# EAGLE library part 74*145 (library 74xx-eu)
BCD to decimal DECODER/DRIVER
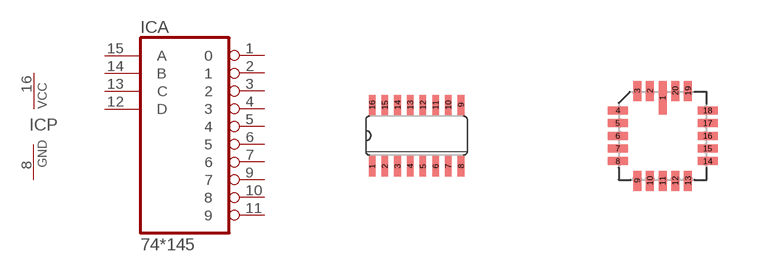
[diagram p97: symbol with the pads of SO16; footprints SO16, LCC20]

Designator prefix IC; gates A=74145 P=PWRN

## 74145D, 74LS145D  [SO16]
1  A:0  out
2  A:1  out
3  A:2  out
4  A:3  out
5  A:4  out
6  A:5  out
7  A:6  out
8  P:GND  pwr
9  A:7  out
10  A:8  out
11  A:9  out
12  A:D  in
13  A:C  in
14  A:B  in
15  A:A  in
16  P:VCC  pwr

## 74145FK, 74LS145FK  [LCC20]
2  A:0  out
3  A:1  out
4  A:2  out
5  A:3  out
7  A:4  out
8  A:5  out
9  A:6  out
10  P:GND  pwr
12  A:7  out
13  A:8  out
14  A:9  out
15  A:D  in
17  A:C  in
18  A:B  in
19  A:A  in
20  P:VCC  pwr

## 74145N, 74LS145N  [DIL16]
Pads as for SO16

## Footprint SO16 (pad centres in mm)
Small Outline package 150 mil
smd 0.165 x 0.508: 1 -1.111,-0.768; 2 -0.794,-0.768; 3 -0.476,-0.768; 4 -0.159,-0.768; 5 0.159,-0.768; 6 0.476,-0.768; 7 0.794,-0.768; 8 1.111,-0.768; 9 1.111,0.768; 10 0.794,0.768; 11 0.476,0.768; 12 0.159,0.768; 13 -0.159,0.768; 14 -0.476,0.768; 15 -0.794,0.768; 16 -1.111,0.768

## Footprint LCC20 (pad centres in mm)
Leadless Chip Carrier Ceramic Package
smd 0.2 x 0.85: 1 0,0.95
smd 0.2 x 0.5: 2 -0.318,1.125; 3 -0.635,1.125; 9 -0.635,-1.125; 10 -0.318,-1.125; 11 0,-1.125; 12 0.318,-1.125; 13 0.635,-1.125; 19 0.635,1.125; 20 0.318,1.125
smd 0.5 x 0.2: 4 -1.125,0.635; 5 -1.125,0.318; 6 -1.125,0; 7 -1.125,-0.318; 8 -1.125,-0.635; 14 1.125,-0.635; 15 1.125,-0.318; 16 1.125,0; 17 1.125,0.318; 18 1.125,0.635

## Footprint DIL16 (pad centres in mm)
Dual In Line Package
drill 0.203 long: 1 -2.223,-0.953; 2 -1.587,-0.953; 3 -0.953,-0.953; 4 -0.318,-0.953; 5 0.318,-0.953; 6 0.953,-0.953; 7 1.587,-0.953; 8 2.223,-0.953; 9 2.223,0.953; 10 1.587,0.953; 11 0.953,0.953; 12 0.318,0.953; 13 -0.318,0.953; 14 -0.953,0.953; 15 -1.587,0.953; 16 -2.223,0.953